# EAGLE library part 18650_BATTERY_HOLDER_TH2 (library SamacSys_Parts)
Cylindrical Battery Contacts, Clips, Holders & Springs THM Polarized Holder Dual 18650 Batteries Source: Datasheet <https://componentsearchengine.com/Datasheets/1/1049P.pdf>
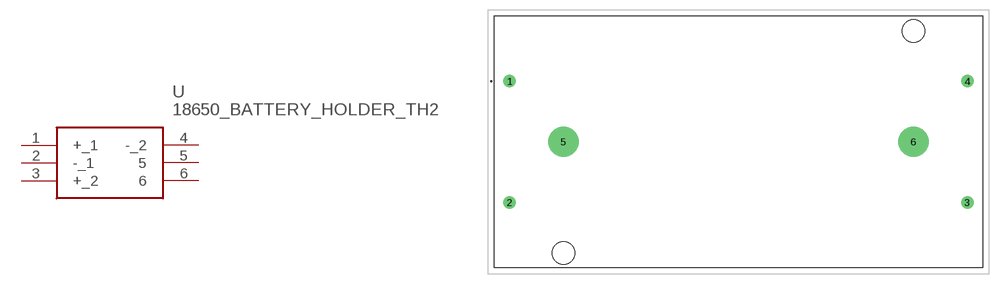
[diagram p6: symbol with the pads of 1049P; footprint 1049P]

Designator prefix U

## 18650_BATTERY_HOLDER_TH2 (DESCRIPTION: Cylindrical Battery Contacts, Clips, Holders & Springs THM Polarized Holder Dual 18650 Batteries; HEIGHT: 14.85mm; MANUFACTURER_NAME: Keystone Electronics; MANUFACTURER_PART_NUMBER: 1049P; MOUSER_PART_NUMBER: 534-1049P; MOUSER_PRICE-STOCK: https://www.mouser.com/Search/Refine.aspx?Keyword=534-1049P)  [1049P]
1  +_1
2  -_1
3  +_2
4  -_2
5  5
6  6

## Footprint 1049P (pad centres in mm)
1049P-2
drill 1.32 pad 1.98: 1 0,0; 2 0,-19.13; 3 72.22,-19.13; 4 72.22,0
drill 3.18 pad 4.77: 5 8.51,-9.55; 6 63.71,-9.55
hole 3.55 at 8.51,-27.08
hole 3.55 at 63.71,7.92